# Altium schematic symbol library Components - 08.08.24 - 16.SchLib: 1 symbol
Pins are listed as number, name and electrical type; pins without a type are passive.

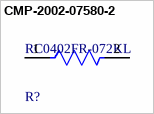
[diagram p0: symbol CMP-2002-07580-2]

## CMP-2002-07580-2
designator R?, comment RC0402FR-072KL
RES SMD 2K OHM 1% 1/16W 0402; Manufacturer: Yageo; Voltage Rating: 50V; Temperature Coefficient: 100ppm/°C; Resistance: 2kΩ; Power Rating: 0.0625W; Standoff Height: 0mm; Value: 2kΩ; Category: Res; Device Class L3: Chip SMD Resistors; Octopart: https://octopart.com/rc0402fr-072kl-yageo-5032519; Mouser Description: RES SMD 2K OHM 1% 1/16W 0402; RoHS: TRUE; Temperature: -55°C to +155°C; Device Class L2: Resistors; Series: RC_L; Automotive: No; Temperature Range Low: -55°C; Footprint Url: https://www.yageo.com/upload/website/yageo_PYu-R_Mount_10_19050818_343.pdf; Height: 0.4mm; ComponentLink2Description: Datasheet; Package: RC_L0402; ComponentLink2URL: http://www.yageo.com/documents/recent/PYu-RC_Group_51_RoHS_L_9.pdf; Manufacturer Part Number: RC0402FR-072KL; Temperature Range High: +155°C; Lead Free: Yes; Device Class L1: Passive Components; Ipc Land Pattern Name: RESC10050X35; Composition: Thick Film; Digikey Description: RES SMD 2K OHM 1% 1/16W 0402; Tolerance: 1%
footprint FP-RC_L0402-IPC_A
footprint FP-RC_L0402-IPC_C
footprint FP-RC_L0402-MFG
footprint FP-RC_L0402-IPC_B
pins: 1, 2